# Altium footprint library PCB - IND - WE-MPSB_161252.PCBLIB: 1 footprints
Each footprint in its own frame and in the unit in brackets; x right, y up, seen from the top. Pads: shape width x height; smd on the part's side, far side on the other; paste and mask are expansions set on the pad; w line width, h text height; cw(c..) or ccw(c..) is an arc to the next point about the centre after c.
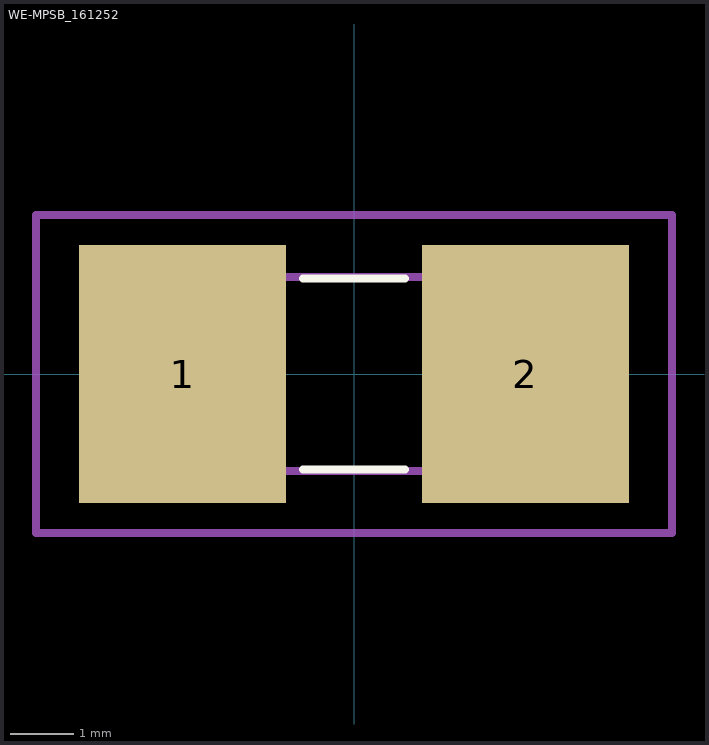
[diagram p0: the footprint, top view; thin cyan lines are the x and y axes]

## WE-MPSB_161252 [mm]
pads (2):
  rect 3.255x4.06 smd: 1(-2.692,0) 2(2.692,0)
Top Overlay:
  lines w0.127: -0.8,-1.5 0.8,-1.5 ; -0.8,1.5 0.8,1.5
Mechanical 13:
  lines w0.127: -2.03,-1.525 2.03,-1.525 2.03,1.525 -2.03,1.525 -2.03,-1.525
Mechanical 15:
  lines w0.127: -5,-2.5 5,-2.5 5,2.5 -5,2.5 -5,-2.5